# EAGLE library part 3ROW_4POS (library SolarJackets_Common)
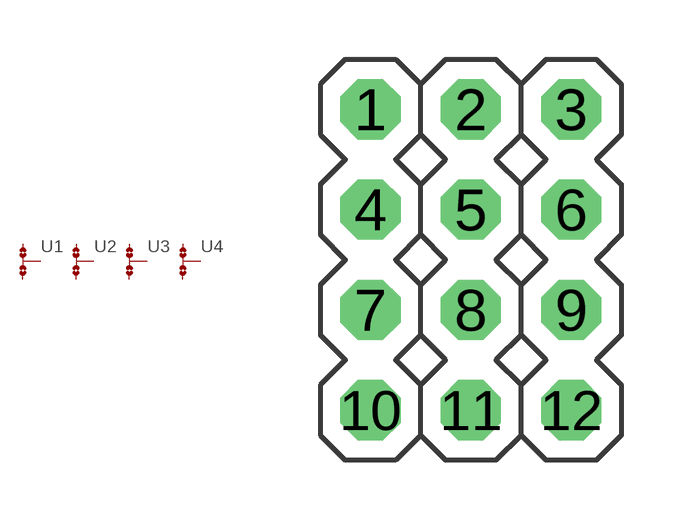
[diagram p17: symbol with the pads of 3ROW_4POS; footprint 3ROW_4POS]

Designator prefix -; gates 1=0RJM 2=0RJM 3=0RJM 4=0RJM

## 3ROW_4POS  [3ROW_4POS]
1  1:1  pas
2  1:2  pas
3  1:3  pas
4  2:1  pas
5  2:2  pas
6  2:3  pas
7  3:1  pas
8  3:2  pas
9  3:3  pas
10  4:1  pas
11  4:2  pas
12  4:3  pas

## Footprint 3ROW_4POS (pad centres in mm)
drill 1.016 octagon: 1 0,0; 2 2.54,0; 3 5.08,0; 4 0,-2.54; 5 2.54,-2.54; 6 5.08,-2.54; 7 0,-5.08; 8 2.54,-5.08; 9 5.08,-5.08; 10 0,-7.62; 11 2.54,-7.62; 12 5.08,-7.62